# Altium integrated library WE-CFWI_rev15a.intlib: 7 symbols
Pins are listed as number, name and electrical type; pins without a type are passive.

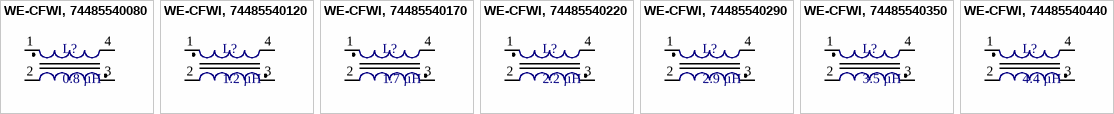
[diagram p0: symbols WE-CFWI, 74485540080 to WE-CFWI, 74485540440]

## WE-CFWI, 74485540080
designator L?, comment 0.8 µH
Coupled Flatwire Inductor WE-CFWI, L=0.8 µH; PartNo: 74485540080; Manufacturer: Würth Elektronik eiSos GmbH; Inductance: 0.8 µH; ComponentLink1Description: Manufacturer; ComponentLink1URL: http://www.we-online.de; Created by: Otto Christin; Created Date: Aug 2013; ComponentLink2Description: Datasheet; ComponentLink2URL: http://www.we-online.de/katalog/media/pdf/74485540080.pdf
footprint WE-CFWI 1310 (Chip Inductor, 4-Leads, Body 15.5x13.2mm)
pins: 1, 2, 3, 4

## WE-CFWI, 74485540120
designator L?, comment 1.2 µH
Coupled Flatwire Inductor WE-CFWI, L=1.2 µH; PartNo: 74485540120; Manufacturer: Würth Elektronik eiSos GmbH; Inductance: 1.2 µH; ComponentLink1Description: Manufacturer; ComponentLink1URL: http://www.we-online.de; Created by: Otto Christin; Created Date: Aug 2013; ComponentLink2Description: Datasheet; ComponentLink2URL: http://www.we-online.de/katalog/media/pdf/74485540120.pdf
footprint WE-CFWI 1310 (Chip Inductor, 4-Leads, Body 15.5x13.2mm)
pins: 1, 2, 3, 4

## WE-CFWI, 74485540170
designator L?, comment 1.7 µH
Coupled Flatwire Inductor WE-CFWI, L=1.7 µH; PartNo: 74485540170; Manufacturer: Würth Elektronik eiSos GmbH; Inductance: 1.7 µH; ComponentLink1Description: Manufacturer; ComponentLink1URL: http://www.we-online.de; Created by: Otto Christin; Created Date: Aug 2013; ComponentLink2Description: Datasheet; ComponentLink2URL: http://www.we-online.de/katalog/media/pdf/74485540170.pdf
footprint WE-CFWI 1310 (Chip Inductor, 4-Leads, Body 15.5x13.2mm)
pins: 1, 2, 3, 4

## WE-CFWI, 74485540220
designator L?, comment 2.2 µH
Coupled Flatwire Inductor WE-CFWI, L=2.2 µH; PartNo: 74485540220; Manufacturer: Würth Elektronik eiSos GmbH; Inductance: 2.2 µH; ComponentLink1Description: Manufacturer; ComponentLink1URL: http://www.we-online.de; Created by: Otto Christin; Created Date: Aug 2013; ComponentLink2Description: Datasheet; ComponentLink2URL: http://www.we-online.de/katalog/media/pdf/74485540220.pdf
footprint WE-CFWI 1310 (Chip Inductor, 4-Leads, Body 15.5x13.2mm)
pins: 1, 2, 3, 4

## WE-CFWI, 74485540290
designator L?, comment 2.9 µH
Coupled Flatwire Inductor WE-CFWI, L=2.9 µH; PartNo: 74485540290; Manufacturer: Würth Elektronik eiSos GmbH; Inductance: 2.9 µH; ComponentLink1Description: Manufacturer; ComponentLink1URL: http://www.we-online.de; Created by: Otto Christin; Created Date: Aug 2013; ComponentLink2Description: Datasheet; ComponentLink2URL: http://www.we-online.de/katalog/media/pdf/74485540290.pdf
footprint WE-CFWI 1310 (Chip Inductor, 4-Leads, Body 15.5x13.2mm)
pins: 1, 2, 3, 4

## WE-CFWI, 74485540350
designator L?, comment 3.5 µH
Coupled Flatwire Inductor WE-CFWI, L=3.5 µH; PartNo: 74485540350; Manufacturer: Würth Elektronik eiSos GmbH; Inductance: 3.5 µH; ComponentLink1Description: Manufacturer; ComponentLink1URL: http://www.we-online.de; Created by: Otto Christin; Created Date: Aug 2013; ComponentLink2Description: Datasheet; ComponentLink2URL: http://www.we-online.de/katalog/media/pdf/74485540350.pdf
footprint WE-CFWI 1310 (Chip Inductor, 4-Leads, Body 15.5x13.2mm)
pins: 1, 2, 3, 4

## WE-CFWI, 74485540440
designator L?, comment 4.4 µH
Coupled Flatwire Inductor WE-CFWI, L=4.4 µH; PartNo: 74485540440; Manufacturer: Würth Elektronik eiSos GmbH; Inductance: 4.4 µH; ComponentLink1Description: Manufacturer; ComponentLink1URL: http://www.we-online.de; Created by: Otto Christin; Created Date: Aug 2013; ComponentLink2Description: Datasheet; ComponentLink2URL: http://www.we-online.de/katalog/media/pdf/74485540440.pdf
footprint WE-CFWI 1310 (Chip Inductor, 4-Leads, Body 15.5x13.2mm)
pins: 1, 2, 3, 4